# Altium footprint library WURTH 691508110302.PCBLIB: 1 footprints
Each footprint in its own frame and in the unit in brackets; x right, y up, seen from the top. Pads: shape width x height; smd on the part's side, far side on the other; paste and mask are expansions set on the pad; w line width, h text height; cw(c..) or ccw(c..) is an arc to the next point about the centre after c.
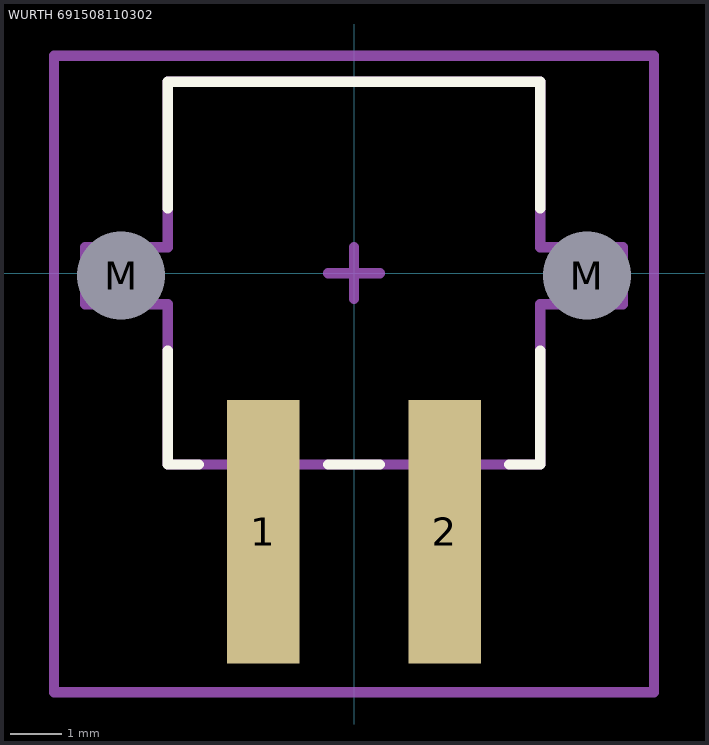
[diagram p0: the footprint, top view; thin cyan lines are the x and y axes]

## WURTH 691508110302 [mm]
height 11.2
pads (4):
  rect 1.4x5.1 smd: 1(-1.75,-5) 2(1.75,-5)
  round 1 hole 1.7 unplated: M(-4.5,-0.05) M(4.5,-0.05)
Top Overlay:
  lines w0.2: -3.6,-1.5 -3.6,-3.7 -3,-3.7 ; -3.6,1.25 -3.6,3.7 3.6,3.7 3.6,1.25 ; -0.5,-3.7 0.5,-3.7 ; 3,-3.7 3.6,-3.7 3.6,-1.5
Mechanical 1:
  lines w0.2: -5.2,-0.6 -3.6,-0.6 -3.6,-3.7 0,-3.7 3.6,-3.7 3.6,-0.6 5.2,-0.6 5.2,0.5 3.6,0.5 3.6,3.7 -3.6,3.7 -3.6,0.5 -5.2,0.5 -5.2,-0.6
Mechanical 15:
  lines w0.2: -0.5,0 0.5,0 ; 0,-0.5 0,0.5 ; -5.8,-8.1 -5.8,4.2 5.8,4.2 5.8,-8.1 -5.8,-8.1
3D body "Wurth 691508110302.STEP": height 11.2, standoff -2, extent -5.175,-7.2 5.175,3.7